# Altium footprint library FootprintsComponentsTSAL.PcbLib: 10 footprints
Each footprint in its own frame and in the unit in brackets; x right, y up, seen from the top. Pads: shape width x height; smd on the part's side, far side on the other; paste and mask are expansions set on the pad; w line width, h text height; cw(c..) or ccw(c..) is an arc to the next point about the centre after c.
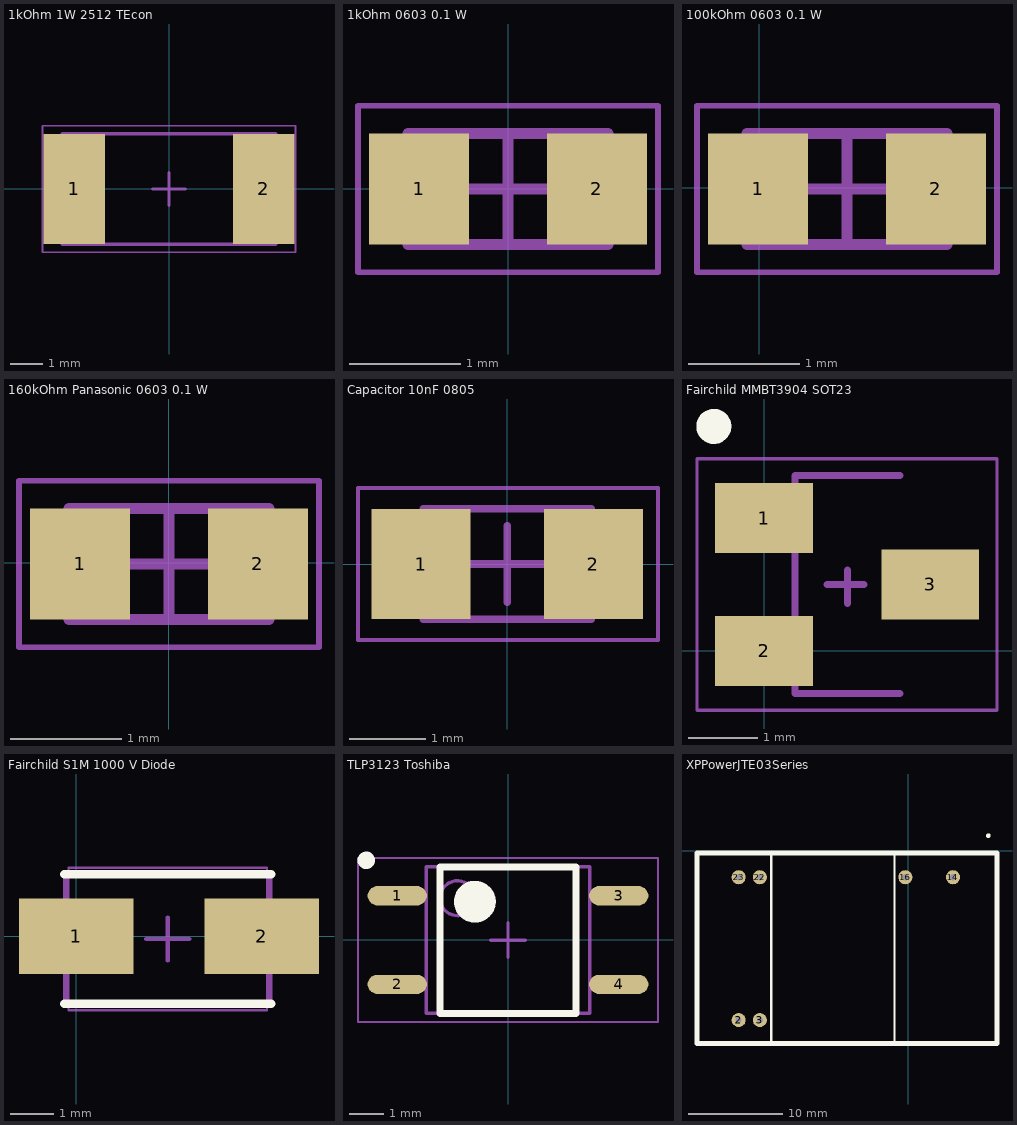
[diagram p0: the footprints below, top view; thin cyan lines are the x and y axes]

## 1kOhm 1W 2512 TEcon [mm] "1kOhm 1W 2512 TE con. 3520 Series"
height 0.7
pads (2):
  rect 1.9x3.4 smd: 1(-2.925,0) 2(2.925,0)
Mechanical 13:
  lines w0.1: -3.3,-1.7 -3.3,1.7 3.3,1.7 3.3,-1.7 -3.3,-1.7
Mechanical 15:
  lines w0.05: -3.9,-1.95 -3.9,1.95 3.9,1.95 3.9,-1.95 -3.9,-1.95
  lines w0.1: -0.5,0 0.5,0 ; 0,-0.5 0,0.5
3D body: height 0.7, standoff 0, extent -2.6,-1.7 2.6,1.7
3D body: height 0.7, standoff 0, extent -3.3,-1.7 -2.6,1.7
3D body: height 0.7, standoff 0, extent 2.6,-1.7 3.3,1.7

## 1kOhm 0603 0.1 W [mm] "1kOhm 0603 Panasonic ERA Series 0.1 W"
height 0.55
pads (2):
  rect 0.9x1 smd: 1(-0.8,0) 2(0.8,0)
Mechanical 13:
  lines w0.1: -0.9,-0.5 -0.9,0.5 0.9,0.5 0.9,-0.5 -0.9,-0.5
Mechanical 15:
  lines w0.05: -1.35,-0.75 -1.35,0.75 1.35,0.75 1.35,-0.75 -1.35,-0.75
  lines w0.1: -0.5,0 0.5,0 ; 0,-0.5 0,0.5
3D body: height 0.55, standoff 0, extent -0.6,-0.5 0.6,0.5
3D body: height 0.55, standoff 0, extent -0.9,-0.5 -0.6,0.5
3D body: height 0.55, standoff 0, extent 0.6,-0.5 0.9,0.5

## 100kOhm 0603 0.1 W [mm] "10kOhm 0603 Panasonic ERA series (same FP as 1k) 0.1 W"
height 0.55
pads (2):
  rect 0.9x1 smd: 1(-0.01,-0.01) 2(1.59,-0.01)
Mechanical 13:
  lines w0.1: -0.11,-0.51 1.69,-0.51 1.69,0.49 -0.11,0.49 -0.11,-0.51
Mechanical 15:
  lines w0.05: -0.56,-0.76 2.14,-0.76 2.14,0.74 -0.56,0.74 -0.56,-0.76
  lines w0.1: 0.29,-0.01 1.29,-0.01 ; 0.79,-0.51 0.79,0.49
3D body: height 0.55, standoff 0, extent 1.39,-0.51 1.69,0.49
3D body: height 0.55, standoff 0, extent -0.11,-0.51 0.19,0.49
3D body: height 0.55, standoff 0, extent 0.19,-0.51 1.39,0.49

## 160kOhm Panasonic 0603 0.1 W [mm] "160kOhm Panasonic 0603 ERA Series (same as 1kOhm) 0.1 W"
height 1.2
pads (2):
  rect 0.9x1 smd: 1(-0.8,-0.01) 2(0.8,-0.01)
Mechanical 13:
  lines w0.1: -0.9,-0.51 0.9,-0.51 0.9,0.49 -0.9,0.49 -0.9,-0.51
Mechanical 15:
  lines w0.05: -1.35,-0.76 1.35,-0.76 1.35,0.74 -1.35,0.74 -1.35,-0.76
  lines w0.1: -0.5,-0.01 0.5,-0.01 ; 0,-0.51 0,0.49
3D body: height 0.55, standoff 0, extent 0.6,-0.51 0.9,0.49
3D body: height 0.55, standoff 0, extent -0.9,-0.51 -0.6,0.49
3D body: height 0.55, standoff 0, extent -0.6,-0.51 0.6,0.49

## Capacitor 10nF 0805 [mm] "Capacitor 10nF 0805"
height 0.7
pads (2):
  rect 1.3x1.45 smd: 1(-1.13,0) 2(1.13,0)
Mechanical 13:
  lines w0.1: -1.1,-0.725 -1.1,0.725 1.1,0.725 1.1,-0.725 -1.1,-0.725
Mechanical 15:
  lines w0.05: -1.96,-1 -1.96,1 1.98,1 1.98,-1 -1.96,-1
  lines w0.1: -0.5,0 0.5,0 ; 0,-0.5 0,0.5
3D body: height 0.7, standoff 0, extent -0.6,-0.725 0.6,0.725
3D body: height 0.7, standoff 0, extent -1.1,-0.725 -0.6,0.725
3D body: height 0.7, standoff 0, extent 0.6,-0.725 1.1,0.725

## Fairchild MMBT3904 SOT23 [mm] "Fairchild MMBT3904 SOT23 NPN 0.2 A 40 V"
height 1.2
pads (3):
  rect 1.4x1 smd: 1(0,1.9) 2(0,0) 3(2.375,0.95)
Top Overlay:
  circle w0.25: c-0.72,3.21 r0.125
Mechanical 13:
  lines w0.1: 1.94,-0.61 0.44,-0.61 0.44,2.51 1.94,2.51
Mechanical 15:
  lines w0.05: -0.96,-0.85 -0.96,2.75 3.33,2.75 3.33,-0.85 -0.96,-0.85
  lines w0.1: 0.9,0.95 1.43,0.95 ; 1.19,0.68 1.19,1.16
3D body: height 1.2, standoff 0.1, extent 0.44,-0.61 1.94,2.51

## Fairchild S1M 1000 V Diode [mm] "Fairchild S1M 1000 switching diode 1 A DO214AC"
height 2.7
pads (2):
  rect 2.65x1.75 smd: 1(0,0) 2(4.3,0)
Top Overlay:
  lines w0.2: -0.28,-1.56 4.52,-1.56 ; -0.28,1.44 4.52,1.44
Mechanical 13:
  lines w0.1: -0.255,-1.535 -0.255,1.415 4.495,1.415 4.495,-1.535 -0.255,-1.535
Mechanical 15:
  lines w0.05: -0.18,-1.71 -0.18,1.59 4.42,1.59 4.42,-1.71 -0.18,-1.71
  lines w0.1: 1.62,-0.06 2.62,-0.06 ; 2.12,-0.56 2.12,0.44
3D body: height 2.7, standoff 0, extent -0.255,-1.535 4.495,1.415

## SODFL370X100-2N [mm] "SODFL, 2-Leads, Body 1,78x3,70mm, IPC Medium Density"
height 1

## TLP3123 Toshiba [mm] "TLP3123 Toshiba Optocoupler"
height 0.7
pads (4):
  oval 1.7x0.55 smd: 1(-3.181,1.265) 2(-3.181,-1.275) 3(3.169,1.265) 4(3.169,-1.275)
Top Overlay:
  circle w0.25: c-4.07,2.281 r0.125
  circle w0.6: c-0.956,1.095 r0.3
  lines w0.2: -1.956,-2.105 -1.956,2.095 1.944,2.095 1.944,-2.105 -1.956,-2.105
Mechanical 13:
  circle w0.1: c-1.456,1.195 r0.5
  lines w0.1: -2.356,-2.105 -2.356,2.095 2.344,2.095 2.344,-2.105 -2.356,-2.105
Mechanical 15:
  lines w0.05: -4.306,-2.355 -4.306,2.345 4.294,2.345 4.294,-2.355 -4.306,-2.355
  lines w0.1: -0.506,-0.005 0.494,-0.005 ; -0.006,-0.505 -0.006,0.495
3D body: height 2.1, standoff 0, extent -2.35,-2.11 2.35,2.09

## XPPowerJTE03Series [mm] "XPPowerJTE03Series DCDC (Unfinished, needs more pins?)"
height 2.7
pads (6):
  round 1.5 hole 0.65: 2(-18.08,-18.08) 3(-15.82,-18.08) 14(4.78,-2.84) 16(-0.3,-2.84) 22(-15.82,-2.84) 23(-18.08,-2.84)
Top Overlay:
  circle w0.25: c8.55,1.6 r0.125
  lines w0.25: -14.61,-20.58 -14.61,-0.26 ; -1.46,-20.58 -1.46,-0.26
  lines w0.508: -22.525,-20.58 -22.525,-0.26 9.475,-0.26 9.475,-20.58 -22.525,-20.58